# Altium footprint library 贴片元器件.PCBLIB: 208 footprints (part 6 of 13)
Each footprint in its own frame and in the unit in brackets; x right, y up, seen from the top. Pads: shape width x height; smd on the part's side, far side on the other; paste and mask are expansions set on the pad; w line width, h text height; cw(c..) or ccw(c..) is an arc to the next point about the centre after c.
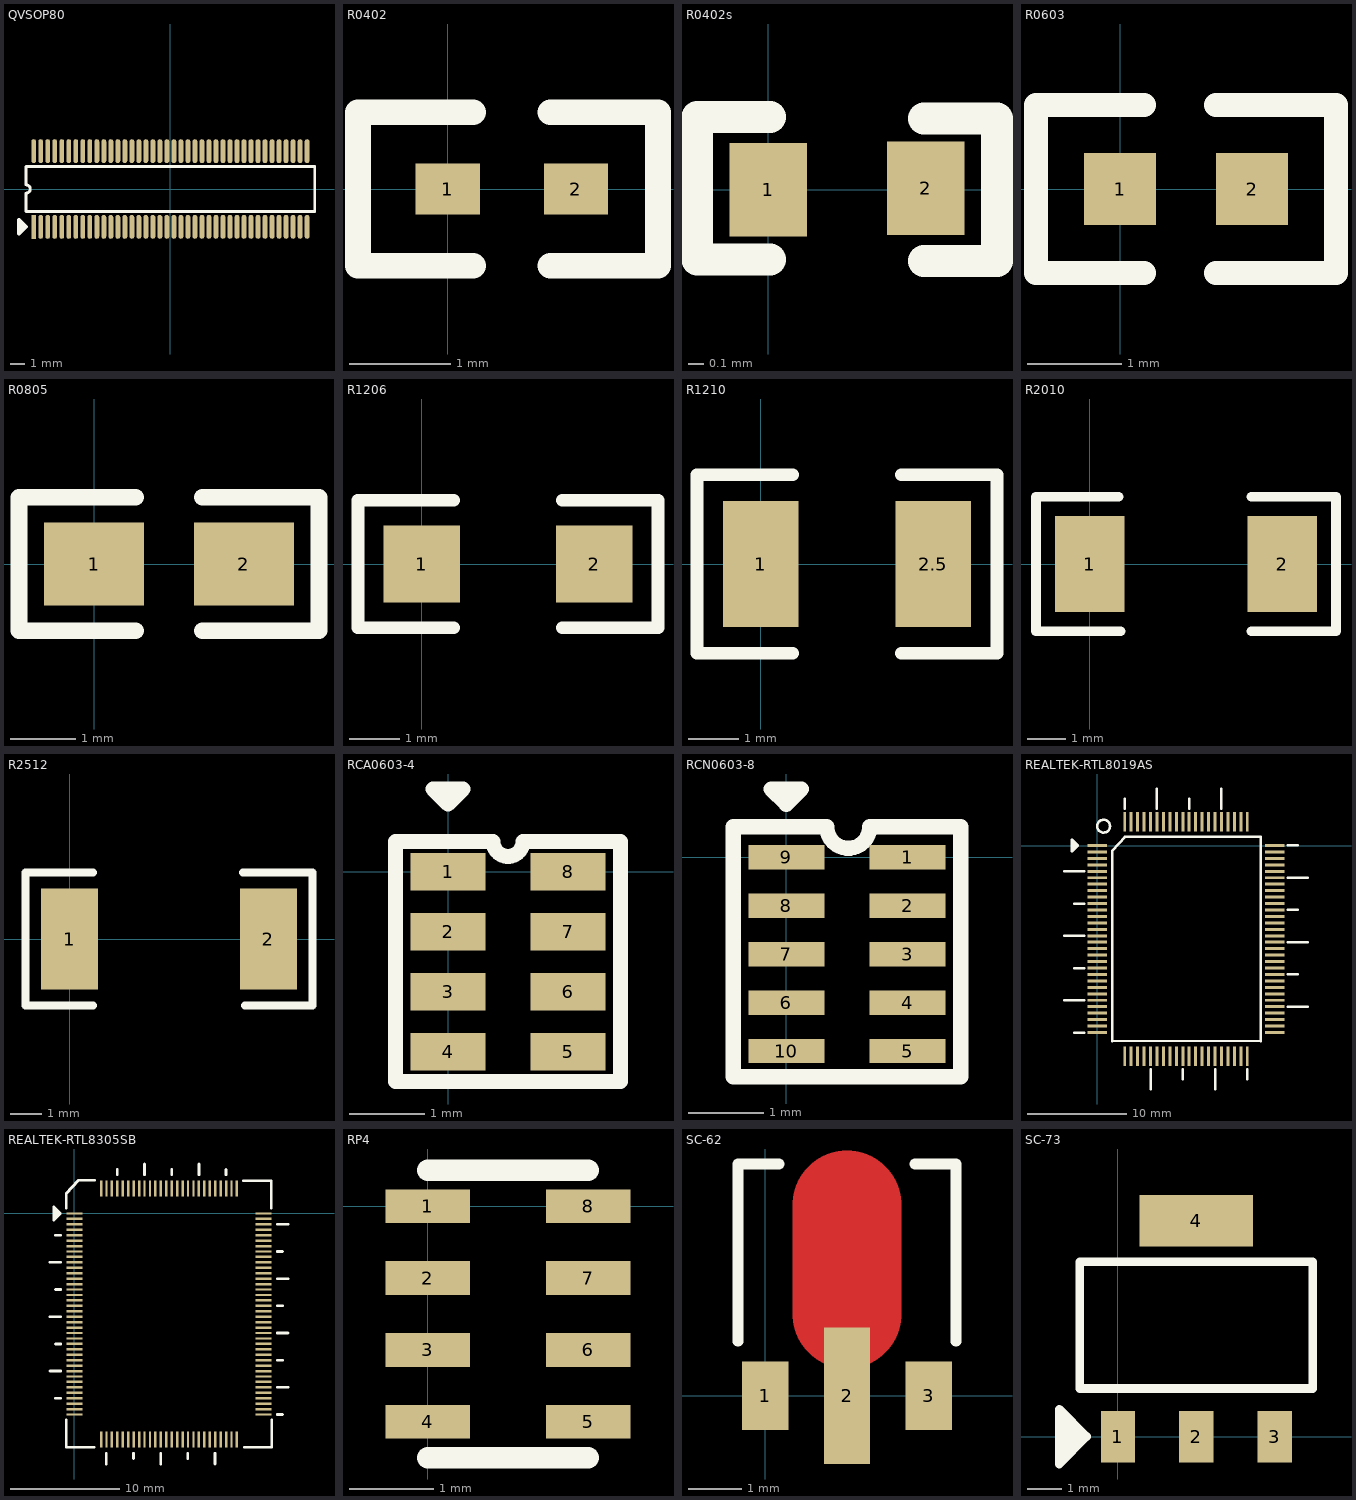
[diagram p5: the footprints below, top view; thin cyan lines are the x and y axes]

## QVSOP80 [mm]
pads (80):
  rect 0.35x1.7 smd: 1(-9.75,-2.7)
  oval 0.35x1.7 smd: 2(-9.25,-2.7) 3(-8.75,-2.7) 4(-8.25,-2.7) 5(-7.75,-2.7) 6(-7.25,-2.7) 7(-6.75,-2.7) 8(-6.25,-2.7) 9(-5.75,-2.7) 10(-5.25,-2.7) 11(-4.75,-2.7) 12(-4.25,-2.7) 13(-3.75,-2.7) 14(-3.25,-2.7) 15(-2.75,-2.7) 16(-2.25,-2.7) 17(-1.75,-2.7) 18(-1.25,-2.7) 19(-0.75,-2.7) 20(-0.25,-2.7) 21(0.25,-2.7) 22(0.75,-2.7) 23(1.25,-2.7) 24(1.75,-2.7) 25(2.25,-2.7) 26(2.75,-2.7) 27(3.25,-2.7) 28(3.75,-2.7) 29(4.25,-2.7) 30(4.75,-2.7) 31(5.25,-2.7) 32(5.75,-2.7) 33(6.25,-2.7) 34(6.75,-2.7) 35(7.25,-2.7) 36(7.75,-2.7) 37(8.25,-2.7) 38(8.75,-2.7) 39(9.25,-2.7) 40(9.75,-2.7) 41(9.75,2.7) 42(9.25,2.7) 43(8.75,2.7) 44(8.25,2.7) 45(7.75,2.7) 46(7.25,2.7) 47(6.75,2.7) 48(6.25,2.7) 49(5.75,2.7) 50(5.25,2.7) 51(4.75,2.7) 52(4.25,2.7) 53(3.75,2.7) 54(3.25,2.7) 55(2.75,2.7) 56(2.25,2.7) 57(1.75,2.7) 58(1.25,2.7) 59(0.75,2.7) 60(0.25,2.7) 61(-0.25,2.7) 62(-0.75,2.7) 63(-1.25,2.7) 64(-1.75,2.7) 65(-2.25,2.7) 66(-2.75,2.7) 67(-3.25,2.7) 68(-3.75,2.7) 69(-4.25,2.7) 70(-4.75,2.7) 71(-5.25,2.7) 72(-5.75,2.7) 73(-6.25,2.7) 74(-6.75,2.7) 75(-7.25,2.7) 76(-7.75,2.7) 77(-8.25,2.7) 78(-8.75,2.7) 79(-9.25,2.7) 80(-9.75,2.7)
TopOverlay:
  lines w0.2: -10.3,-1.6 10.3,-1.6 10.3,1.6 -10.3,1.6 -10.3,0.3 cw(c-10.3,0) -10.3,-0.3 -10.3,-1.6
  lines w0.254: -10.606,-3.006 -10.606,-2.394 -10.8,-2.2 ; -10.8,-2.2 -10.8,-3.2 -10.3,-2.7 -10.8,-2.2

## R0402 [mil]
pads (2):
  rect 25x20 smd: 1(0,0) 2(50,0)
TopOverlay:
  lines w10: 10,-30 -35,-30 -35,30 10,30 ; 40,-30 82,-30 82,30 40,30

## R0402s [mm]
pads (2):
  rect 0.5x0.6 smd: 1(0,0) 2(1.011,0.009)
TopOverlay:
  lines w0.203: 0.011,-0.448 -0.457,-0.448 -0.457,0.466 0.011,0.466 ; 1,-0.457 1.468,-0.457 1.468,0.457 1,0.457

## R0603 [mil]
pads (2):
  rect 30x30 smd: 1(0,0) 2(55,0)
TopOverlay:
  lines w10: 10,-35 -35,-35 -35,35 10,35 ; 40,-35 90,-35 90,35 40,35

## R0805 [mil]
pads (2):
  rect 60x50 smd: 1(0,0) 2(90,0)
TopOverlay:
  lines w10: 25,-40 -45,-40 -45,40 25,40 ; 65,-40 135,-40 135,40 65,40

## R1206 [mil]
pads (2):
  rect 60x60 smd: 1(0,0) 2(135,0)
TopOverlay:
  lines w10: 25,-50 -50,-50 -50,50 25,50 ; 110,-50 185,-50 185,50 110,50

## R1210 [mm]
pads (2):
  rect 1.5x2.5 smd: 1(0,0) 2.5(3.429,0)
TopOverlay:
  lines w0.254: 0.635,-1.778 -1.27,-1.778 -1.27,1.778 0.635,1.778 ; 2.794,-1.778 4.699,-1.778 4.699,1.778 2.794,1.778

## R2010 [mm]
pads (2):
  rect 1.8x2.5 smd: 1(0,0) 2(5,0)
TopOverlay:
  lines w0.254: 0.75,1.75 -1.4,1.75 -1.4,-1.75 0.8,-1.75 ; 4.2,-1.75 6.4,-1.75 6.4,1.75 4.2,1.75

## R2512 [mm]
pads (2):
  rect 1.8x3.2 smd: 1(0,0) 2(6.3,0)
TopOverlay:
  lines w0.254: 0.75,-2.1 -1.4,-2.1 -1.4,2.1 0.75,2.1 ; 5.5,2.1 7.7,2.1 7.7,-2.1 5.55,-2.1

## RCA0603-4 [mm]
pads (8):
  rect 1x0.5 smd: 1(0,0) 2(0,-0.8) 3(0,-1.6) 4(0,-2.4) 5(1.6,-2.4) 6(1.6,-1.6) 7(1.6,-0.8) 8(1.6,0)
TopOverlay:
  lines w0.2: 0.6,0.4 ccw(c0.8,0.4) 1,0.4
  lines w0.203: 0.6,0.4 -0.7,0.4 -0.7,-2.8 2.3,-2.8 2.3,0.4 1,0.4 ; -0.2,1.1 0.2,1.1 0,0.9 -0.2,1.1

## RCN0603-8 [mm]
pads (10):
  rect 1x0.32 smd: 1(1.6,0) 2(1.6,-0.64) 3(1.6,-1.28) 4(1.6,-1.92) 5(1.6,-2.56) 6(0,-1.92) 7(0,-1.28) 8(0,-0.64) 9(0,0) 10(0,-2.56)
TopOverlay:
  lines w0.2: 0.534,0.4 ccw(c0.817,0.4) 1.1,0.4
  lines w0.203: 0.534,0.4 -0.7,0.4 -0.7,-2.9 2.3,-2.9 2.3,0.4 1.1,0.4 ; -0.2,0.9 0.2,0.9 0,0.7 -0.2,0.9

## REALTEK-RTL8019AS [mm]
pads (100):
  rect 2x0.3 smd: 1(0,0) 2(0,-0.65) 3(0,-1.3) 4(0,-1.95) 5(0,-2.6) 6(0,-3.25) 7(0,-3.9) 8(0,-4.55) 9(0,-5.2) 10(0,-5.85) 11(0,-6.5) 12(0,-7.15) 13(0,-7.8) 14(0,-8.45) 15(0,-9.1) 16(0,-9.75) 17(0,-10.4) 18(0,-11.05) 19(0,-11.7) 20(0,-12.35) 21(0,-13) 22(0,-13.65) 23(0,-14.3) 24(0,-14.95) 25(0,-15.6) 26(0,-16.25) 27(0,-16.9) 28(0,-17.55) 29(0,-18.2) 30(0,-18.85) 51(17.912,-18.85) 52(17.912,-18.2) 53(17.912,-17.55) 54(17.912,-16.9) 55(17.912,-16.25) 56(17.912,-15.6) 57(17.912,-14.95) 58(17.912,-14.3) 59(17.912,-13.65) 60(17.912,-13) 61(17.912,-12.35) 62(17.912,-11.7) 63(17.912,-11.05) 64(17.912,-10.4) 65(17.912,-9.75) 66(17.912,-9.1) 67(17.912,-8.45) 68(17.912,-7.8) 69(17.912,-7.15) 70(17.912,-6.5) 71(17.912,-5.85) 72(17.912,-5.2) 73(17.912,-4.55) 74(17.912,-3.9) 75(17.912,-3.25) 76(17.912,-2.6) 77(17.912,-1.95) 78(17.912,-1.3) 79(17.912,-0.65) 80(17.912,0)
  rect 0.3x2 smd: 31(2.781,-21.25) 32(3.431,-21.25) 33(4.081,-21.25) 34(4.731,-21.25) 35(5.381,-21.25) 36(6.031,-21.25) 37(6.681,-21.25) 38(7.331,-21.25) 39(7.981,-21.25) 40(8.631,-21.25) 41(9.281,-21.25) 42(9.931,-21.25) 43(10.581,-21.25) 44(11.231,-21.25) 45(11.881,-21.25) 46(12.531,-21.25) 47(13.181,-21.25) 48(13.831,-21.25) 49(14.481,-21.25) 50(15.131,-21.25) 81(15.131,2.4) 82(14.481,2.4) 83(13.831,2.4) 84(13.181,2.4) 85(12.531,2.4) 86(11.881,2.4) 87(11.231,2.4) 88(10.581,2.4) 89(9.931,2.4) 90(9.281,2.4) 91(8.631,2.4) 92(7.981,2.4) 93(7.331,2.4) 94(6.681,2.4) 95(6.031,2.4) 96(5.381,2.4) 97(4.731,2.4) 98(4.081,2.4) 99(3.431,2.4) 100(2.781,2.4)
TopOverlay:
  circle w0.254: c0.65,1.951 r0.65
  lines w0.2: 1.51,-19.715 16.504,-19.715
  lines w0.254: -3.3,-15.606 -1.3,-15.606 ; -3.3,-9.103 -1.3,-9.103 ; -3.3,-2.601 -1.3,-2.601 ; -2.451,-0.2 -2.251,0 -2.551,0.3 -2.551,0.6 ; -2.3,-18.857 -1.3,-18.857 ; -2.3,-12.355 -1.3,-12.355 ; -2.3,-5.852 -1.3,-5.852 ; 1.51,-19.715 1.532,-0.504 2.781,0.865 3.937,0.865 ; 2.776,3.7 2.776,4.7 ; 4.088,0.865 14.461,0.865 15.978,0.865 16.504,0.883 16.504,-19.715 ; 5.382,-24.551 5.382,-22.551 ; 6.028,3.7 6.028,5.7 ; 8.633,-23.551 8.633,-22.551 ; 9.279,3.7 9.279,4.7 ; 11.884,-24.551 11.884,-22.551 ; 12.53,3.7 12.53,5.7 ; 15.136,-23.551 15.136,-22.551 ; 19.213,-16.249 21.213,-16.249 ; 19.213,-12.998 20.213,-12.998 ; 19.213,-9.747 21.213,-9.747 ; 19.213,-6.495 20.213,-6.495 ; 19.213,-3.244 21.213,-3.244 ; 19.213,0.007 20.213,0.007 ; -2.551,0.6 -1.951,0 -2.551,-0.6 -2.551,0.6

## REALTEK-RTL8305SB [mm]
pads (128):
  rect 1.5x0.22 smd: 1(0,0) 2(0,-0.5) 3(0,-1) 4(0,-1.5) 5(0,-2) 6(0,-2.5) 7(0,-3) 8(0,-3.5) 9(0,-4) 10(0,-4.5) 11(0,-5) 12(0,-5.5) 13(0,-6) 14(0,-6.5) 15(0,-7) 16(0,-7.5) 17(0,-8) 18(0,-8.5) 19(0,-9) 20(0,-9.5) 21(0,-10) 22(0,-10.5) 23(0,-11) 24(0,-11.5) 25(0,-12) 26(0,-12.5) 27(0,-13) 28(0,-13.5) 29(0,-14) 30(0,-14.5) 31(0,-15) 32(0,-15.5) 33(0,-16) 34(0,-16.5) 35(0,-17) 36(0,-17.5) 37(0,-18) 38(0,-18.5) 65(17.4,-18.5) 66(17.4,-18) 67(17.4,-17.5) 68(17.4,-17) 69(17.4,-16.5) 70(17.4,-16) 71(17.4,-15.5) 72(17.4,-15) 73(17.4,-14.5) 74(17.4,-14) 75(17.4,-13.5) 76(17.4,-13) 77(17.4,-12.5) 78(17.4,-12) 79(17.4,-11.5) 80(17.4,-11) 81(17.4,-10.5) 82(17.4,-10) 83(17.4,-9.5) 84(17.4,-9) 85(17.4,-8.5) 86(17.4,-8) 87(17.4,-7.5) 88(17.4,-7) 89(17.4,-6.5) 90(17.4,-6) 91(17.4,-5.5) 92(17.4,-5) 93(17.4,-4.5) 94(17.4,-4) 95(17.4,-3.5) 96(17.4,-3) 97(17.4,-2.5) 98(17.4,-2) 99(17.4,-1.5) 100(17.4,-1) 101(17.4,-0.5) 102(17.4,0)
  rect 0.22x1.5 smd: 39(2.45,-20.8) 40(2.95,-20.8) 41(3.45,-20.8) 42(3.95,-20.8) 43(4.45,-20.8) 44(4.95,-20.8) 45(5.45,-20.8) 46(5.95,-20.8) 47(6.45,-20.8) 48(6.95,-20.8) 49(7.45,-20.8) 50(7.95,-20.8) 51(8.45,-20.8) 52(8.95,-20.8) 53(9.45,-20.8) 54(9.95,-20.8) 55(10.45,-20.8) 56(10.95,-20.8) 57(11.45,-20.8) 58(11.95,-20.8) 59(12.45,-20.8) 60(12.95,-20.8) 61(13.45,-20.8) 62(13.95,-20.8) 63(14.45,-20.8) 64(14.95,-20.8) 103(14.95,2.3) 104(14.45,2.3) 105(13.95,2.3) 106(13.45,2.3) 107(12.95,2.3) 108(12.45,2.3) 109(11.95,2.3) 110(11.45,2.3) 111(10.95,2.3) 112(10.45,2.3) 113(9.95,2.3) 114(9.45,2.3) 115(8.95,2.3) 116(8.45,2.3) 117(7.95,2.3) 118(7.45,2.3) 119(6.95,2.3) 120(6.45,2.3) 121(5.95,2.3) 122(5.45,2.3) 123(4.95,2.3) 124(4.45,2.3) 125(3.95,2.3) 126(3.45,2.3) 127(2.95,2.3) 128(2.45,2.3)
TopOverlay:
  lines w0.254: -2.25,-14.5 -1.25,-14.5 ; -2.25,-9.5 -1.25,-9.5 ; -2.25,-4.5 -1.25,-4.5 ; -1.8,-0.2 -1.6,0 -1.9,0.3 -1.9,0.6 ; -1.75,-17 -1.25,-17 ; -1.75,-12 -1.25,-12 ; -1.75,-7 -1.25,-7 ; -1.75,-2 -1.25,-2 ; -0.75,-19 -0.75,-21.5 1.8,-21.5 ; -0.75,0.5 -0.75,1.85 0.35,3.05 1.85,3.05 ; 2.932,-23.05 2.932,-22.05 ; 3.95,3.55 3.95,4.05 ; 5.432,-22.55 5.432,-22.05 ; 6.45,3.55 6.45,4.55 ; 7.932,-23.05 7.932,-22.05 ; 8.95,3.55 8.95,4.05 ; 10.432,-22.55 10.432,-22.05 ; 11.45,3.55 11.45,4.55 ; 12.932,-23.05 12.932,-22.05 ; 13.95,3.55 13.95,4.05 ; 15.55,3 18.05,3 ; 15.65,-21.5 18.15,-21.5 18.15,-19 ; 18.1,0.5 18.1,3 ; 18.65,-18.5 19.15,-18.5 ; 18.65,-16 19.65,-16 ; 18.65,-13.5 19.15,-13.5 ; 18.65,-11 19.65,-11 ; 18.65,-8.5 19.15,-8.5 ; 18.65,-6 19.65,-6 ; 18.65,-3.5 19.15,-3.5 ; 18.65,-1 19.65,-1 ; -1.9,0.6 -1.9,-0.6 -1.3,0 -1.9,0.6

## RP4 [mm]
pads (8):
  rect 1x0.4 smd: 1(0,0) 2(0,-0.85) 3(0,-1.7) 4(0,-2.55) 5(1.9,-2.55) 6(1.9,-1.7) 7(1.9,-0.85) 8(1.9,0)
TopOverlay:
  lines w0.254: 0,-2.975 1.9,-2.975 ; 0,0.425 1.9,0.425

## SC-62 [mil]
pads (3):
  rect 34x50 smd: 1(0,0) 3(120,0)
  rect 34x100 smd: 2(60,0)
TopLayer:
  lines w80: 60,60 60,140
TopOverlay:
  lines w8: -20,40 -20,170 10,170 ; 110,170 140,170 140,40

## SC-73 [mm]
pads (4):
  rect 1x1.5 smd: 1(0,0) 2(2.286,0) 3(4.572,0)
  rect 3.3x1.5 smd: 4(2.286,6.299)
TopOverlay:
  lines w0.254: -1.514,-0.5 -1.514,0.3 -1.714,0.5 -1.214,0 -1.714,-0.5 -1.714,-0.8 ; -1.714,-0.8 -1.714,0.8 -0.914,0 -1.714,-0.8 ; -1.114,1.4 -1.114,5.1 5.686,5.1 5.686,1.4 -1.114,1.4